# Altium schematic symbol library Switches.SchLib: 1 symbol
Pins are listed as number, name and electrical type; pins without a type are passive.

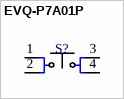
[diagram p0: symbol EVQ-P7A01P]

## EVQ-P7A01P
designator S?  (value not drawn)
Switch Tactile N.O. SPST Rectangular Button Gull Wing 0.05A 12VDC 2.2N SMD Embossed T/R; Manufacturer: Panasonic; Mechanical Life: 100000Cycles; Actuator Color: Black; Max Voltage Rating (DC): 12V; Contact Resistance: 500mR; Illumination Type: Non-Illuminated; Contact Current Rating: 50mA; Switch Travel: 0.2mm; Switch Function: Off-Mom; Actuator Length: 0.65mm; ComponentLink1URL: https://www3.panasonic.biz/ac/e_download/control/switch/light-touch/catalog/sw_lt_eng_3529s_side.pdf; ComponentLink1Description: https://www3.panasonic.biz/ac/e_download/control/switch/light-touch/catalog/sw_lt_eng_3529s_side.pdf; Supplier 1: Mouser; Manufacturer Part Number: EVQ-P7A01P; RoHS: Yes; Category: Tactile Switches; Stock 1: 48946; Pricing 1: 1=0,28, 10=0,258, 50=0,258, 100=0,213, 1000=0,169, 10000=0,138 (USD); Mounting Technology: Surface Mount; Case/Package: SMD/SMT; Min Operating Temperature: -20°C; Max Operating Temperature: 70°C; Throw Configuration: SPST; Operating Force: 2.2N; Packaging: Tape and Reel; Package Quantity: 5000; Termination: Gull Wing; Electrical Life: 100000Cycles; Orientation: Right Angle; Series: EVQP7; Radiation Hardening: No; Lead Free: Lead Free; Reach SVHC Compliant: Unknown; ComponentLink2URL: https://datasheet.ciiva.com/30108/atk0000ce20-30108102.pdf?src-supplier=Onlinecomponents.com; ComponentLink2Description: https://datasheet.ciiva.com/30108/atk0000ce20-30108102.pdf?src-supplier=Onlinecomponents.com; Supplier Part Number 1: 667-EVQP7A01P; Supplier 2: Digi-Key; Supplier 3: Digi-Key; Supplier Part Number 2: P16763CT-ND; Supplier Part Number 3: P16763DKR-ND
footprint EVQP7A
pins: 1, 2, 3, 4